# EAGLE library part BNO055 (library BNO055 IMU)
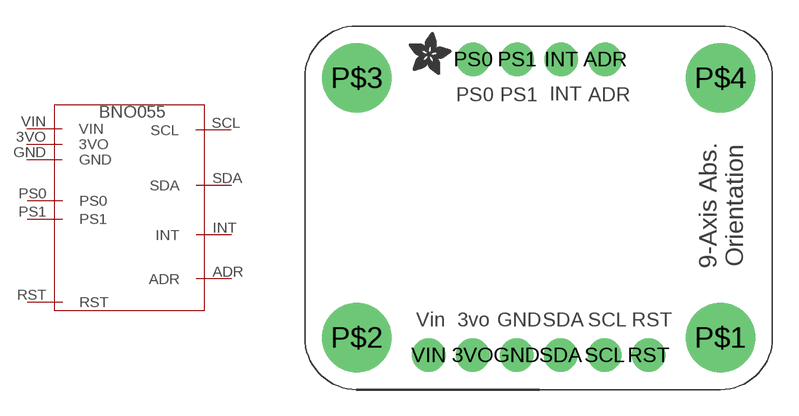
[diagram p0: symbol with the pads of MODULE_FOOTPRINT; footprint MODULE_FOOTPRINT]

Designator prefix -

## BNO055  [MODULE_FOOTPRINT]
3VO  3VO
ADR  ADR
GND  GND
INT  INT
PS0  PS0
PS1  PS1
RST  RST
SCL  SCL
SDA  SDA
VIN  VIN

## Footprint MODULE_FOOTPRINT (pad centres in mm)
drill 1 pad 1.93: 3VO 6.69,1.991; ADR 14.342,19.077; GND 9.23,1.991; INT 11.802,19.077; PS0 6.722,19.077; PS1 9.262,19.077; RST 16.85,1.991; SCL 14.31,1.991; SDA 11.77,1.991; VIN 4.15,1.991
drill 2.5 pad 4: P$1 21,3; P$2 0,3; P$3 0,18; P$4 21,18